# EAGLE library part TPS63060 (library vulcan-1)
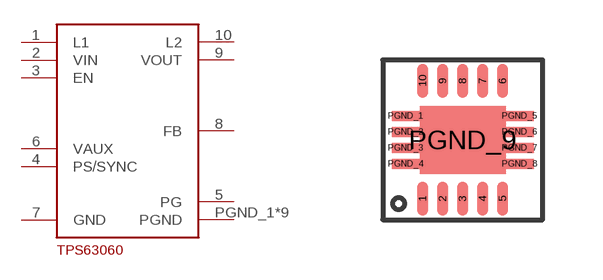
[diagram p2: symbol with the pads of PWSON-N10; footprint PWSON-N10]

Designator prefix -

## TPS63060  [PWSON-N10]
1  L1
2  VIN
3  EN
4  PS/SYNC
5  PG
6  VAUX
7  GND
8  FB
9  VOUT
10  L2
PGND_1  PGND
PGND_2  PGND
PGND_3  PGND
PGND_4  PGND
PGND_5  PGND
PGND_6  PGND
PGND_7  PGND
PGND_8  PGND
PGND_9  PGND

## Footprint PWSON-N10 (pad centres in mm)
smd 0.28 x 0.85: 1 -1,-1.475; 2 -0.5,-1.475; 3 0,-1.475; 4 0.5,-1.475; 5 1,-1.475; 6 1,1.475; 7 0.5,1.475; 8 0,1.475; 9 -0.5,1.475; 10 -1,1.475
smd 0.7 x 0.25: PGND_1 -1.425,0.6; PGND_2 -1.425,0.2; PGND_3 -1.425,-0.2; PGND_4 -1.425,-0.6; PGND_5 1.425,0.6; PGND_6 1.425,0.2; PGND_7 1.425,-0.2; PGND_8 1.425,-0.6
smd 2.15 x 1.7: PGND_9 0,0